# Altium footprint library Connectors$.PcbLib: 17 footprints (part 2 of 2)
Each footprint in its own frame and in the unit in brackets; x right, y up, seen from the top. Pads: shape width x height; smd on the part's side, far side on the other; paste and mask are expansions set on the pad; w line width, h text height; cw(c..) or ccw(c..) is an arc to the next point about the centre after c.
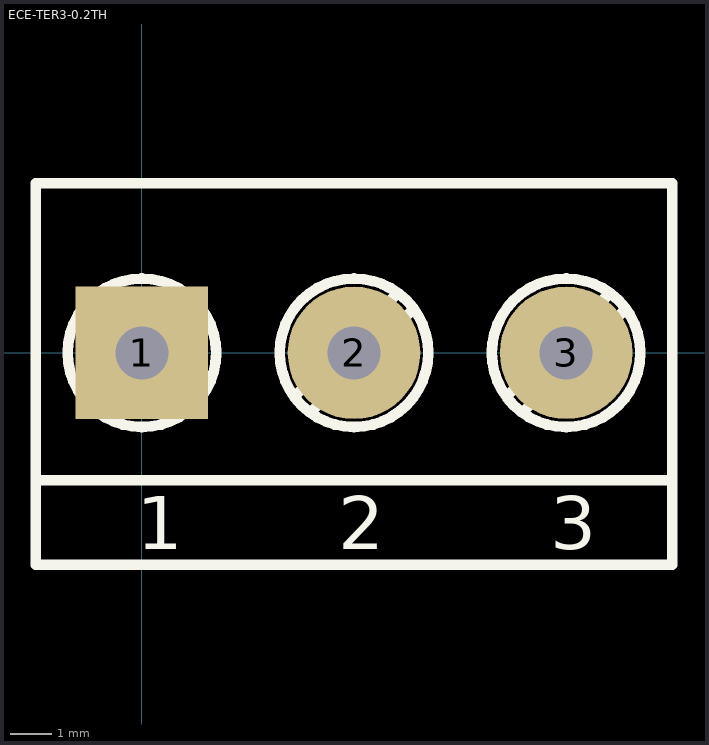
[diagram p1: the footprint, top view; thin cyan lines are the x and y axes]

## ECE-TER3-0.2TH [mil] "3 way screw terminal"
height 393.7
pads (3):
  rect 125x125 hole 50: 1(0,0)
  round 125 hole 50: 2(200,0) 3(400,0)
Top Overlay:
  circle w10: c200,0 r70
  circle w10: c0,0 r70
  circle w10: c400,0 r70
  lines w10: -100,-120 500,-120 ; -55,-40 0,15 40,55 ; -40,-55 0,-15 55,40 ; 145,-40 200,15 240,55 ; 160,-55 200,-15 255,40 ; 345,-40 400,15 440,55 ; 360,-55 400,-15 455,40 ; -100,-200 500,-200 500,160 -100,160 -100,-200
  text "3" at 385,-185 h50
  text "2" at 185,-185 h50
  text "1" at -5,-185 h50